# EAGLE library part AXT?50124 (library con-AXT)
SMD Mezzanine connector Package: AXT5- Socket ATX6- Header Technology: - (no suffix) Two 1500-piece reels -A One 500-piece reel Features: 1mm mating height 50 pins 60V AC/DC 300mA per pin, max 5A (all pins) 90mΩ max 50 mating cycles
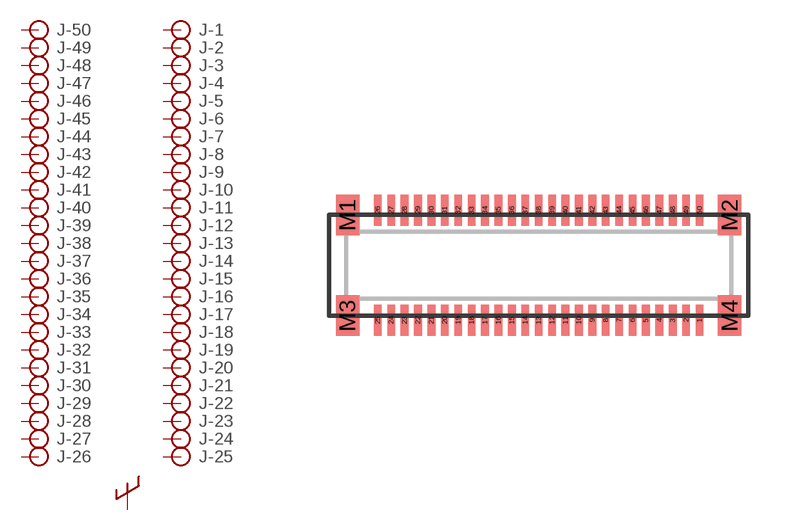
[diagram p0: symbol with the pads of AXT550124; footprint AXT550124]

Designator prefix J; gates -1=PIN -2=PIN -3=PIN -4=PIN -5=PIN -6=PIN -7=PIN -8=PIN -9=PIN -10=PIN -11=PIN -12=PIN -13=PIN -14=PIN -15=PIN -16=PIN -17=PIN -18=PIN -19=PIN -20=PIN -21=PIN -22=PIN -23=PIN -24=PIN -25=PIN -26=PIN -27=PIN -28=PIN -29=PIN -30=PIN -31=PIN -32=PIN -33=PIN -34=PIN -35=PIN -36=PIN -37=PIN -38=PIN -39=PIN -40=PIN -41=PIN -42=PIN -43=PIN -44=PIN -45=PIN -46=PIN -47=PIN -48=PIN -49=PIN -50=PIN -M=MECHANICAL

## AXT550124 (MF: PANASONIC; MPN: AXT550124), AXT550124A (MF: PANASONIC; MPN: AXT550124A)  [AXT550124]
1  -1:P  pas
2  -2:P  pas
3  -3:P  pas
4  -4:P  pas
5  -5:P  pas
6  -6:P  pas
7  -7:P  pas
8  -8:P  pas
9  -9:P  pas
10  -10:P  pas
11  -11:P  pas
12  -12:P  pas
13  -13:P  pas
14  -14:P  pas
15  -15:P  pas
16  -16:P  pas
17  -17:P  pas
18  -18:P  pas
19  -19:P  pas
20  -20:P  pas
21  -21:P  pas
22  -22:P  pas
23  -23:P  pas
24  -24:P  pas
25  -25:P  pas
26  -26:P  pas
27  -27:P  pas
28  -28:P  pas
29  -29:P  pas
30  -30:P  pas
31  -31:P  pas
32  -32:P  pas
33  -33:P  pas
34  -34:P  pas
35  -35:P  pas
36  -36:P  pas
37  -37:P  pas
38  -38:P  pas
39  -39:P  pas
40  -40:P  pas
41  -41:P  pas
42  -42:P  pas
43  -43:P  pas
44  -44:P  pas
45  -45:P  pas
46  -46:P  pas
47  -47:P  pas
48  -48:P  pas
49  -49:P  pas
50  -50:P  pas
M1  -M:M  pas
M2  -M:M  pas
M3  -M:M  pas
M4  -M:M  pas

## Footprint AXT550124 (pad centres in mm)
smd 0.23 x 0.92: 1 4.8,-1.64; 2 4.4,-1.64; 3 4,-1.64; 4 3.6,-1.64; 5 3.2,-1.64; 6 2.8,-1.64; 7 2.4,-1.64; 8 2,-1.64; 9 1.6,-1.64; 10 1.2,-1.64; 11 0.8,-1.64; 12 0.4,-1.64; 13 0,-1.64; 14 -0.4,-1.64; 15 -0.8,-1.64; 16 -1.2,-1.64; 17 -1.6,-1.64; 18 -2,-1.64; 19 -2.4,-1.64; 20 -2.8,-1.64; 21 -3.2,-1.64; 22 -3.6,-1.64; 23 -4,-1.64; 24 -4.4,-1.64; 25 -4.8,-1.64; 26 -4.8,1.64; 27 -4.4,1.64; 28 -4,1.64; 29 -3.6,1.64; 30 -3.2,1.64; 31 -2.8,1.64; 32 -2.4,1.64; 33 -2,1.64; 34 -1.6,1.64; 35 -1.2,1.64; 36 -0.8,1.64; 37 -0.4,1.64; 38 0,1.64; 39 0.4,1.64; 40 0.8,1.64; 41 1.2,1.64; 42 1.6,1.64; 43 2,1.64; 44 2.4,1.64; 45 2.8,1.64; 46 3.2,1.64; 47 3.6,1.64; 48 4,1.64; 49 4.4,1.64; 50 4.8,1.64
smd 0.7 x 1.2: M1 -5.7,1.5; M2 5.7,1.5; M3 -5.7,-1.5; M4 5.7,-1.5